# Altium schematic symbol library SCH - DRIVER - LED - TI TPS92602-Q1PWP.SchLib: 1 symbol
Pins are listed as number, name and electrical type; pins without a type are passive.

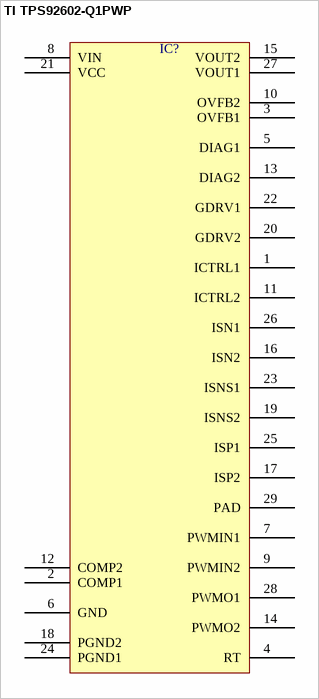
[diagram p0: symbol TI TPS92602-Q1PWP]

## TI TPS92602-Q1PWP
designator IC?  (value not drawn)
pins: 1 ICTRL1, 2 COMP1, 3 OVFB1, 4 RT, 5 DIAG1, 6 GND, 7 PWMIN1, 8 VIN, 9 PWMIN2, 10 OVFB2, 11 ICTRL2, 12 COMP2, 13 DIAG2, 14 PWMO2, 15 VOUT2, 16 ISN2, 17 ISP2, 18 PGND2, 19 ISNS2, 20 GDRV2, 21 VCC, 22 GDRV1, 23 ISNS1, 24 PGND1, 25 ISP1, 26 ISN1, 27 VOUT1, 28 PWMO1, 29 PAD